# EAGLE library part M24512 (library Underwater-Camera-v2.0)
The M24512 is a 512-Kbit I2C-compatible EEPROM (Electrically Erasable PROgrammable Memory) organized as 64 K × 8 bits.
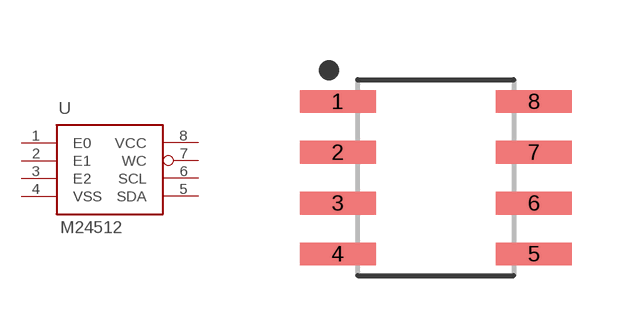
[diagram p7: symbol with the pads of SOIC127P600X175-8; footprint SOIC127P600X175-8]

Designator prefix -

## M24512SO8N  [SOIC127P600X175-8]
1  E0
2  E1
3  E2
4  VSS
5  SDA
6  SCL
7  WC
8  VCC

## Footprint SOIC127P600X175-8 (pad centres in mm)
8-SOIC, 1.27 mm pitch, 6.00 mm span, 4.90 X 3.90 X 1.75 mm body 8-pin SOIC package with 1.27 mm pitch, 6.00 mm span with body size 4.90 X 3.90 X 1.75 mm
smd 1.901 x 0.569: 1 -2.455,1.905; 2 -2.455,0.635; 3 -2.455,-0.635; 4 -2.455,-1.905; 5 2.455,-1.905; 6 2.455,-0.635; 7 2.455,0.635; 8 2.455,1.905